# Altium footprint library PcbLib1.PcbLib: 5 footprints
Each footprint in its own frame and in the unit in brackets; x right, y up, seen from the top. Pads: shape width x height; smd on the part's side, far side on the other; paste and mask are expansions set on the pad; w line width, h text height; cw(c..) or ccw(c..) is an arc to the next point about the centre after c.
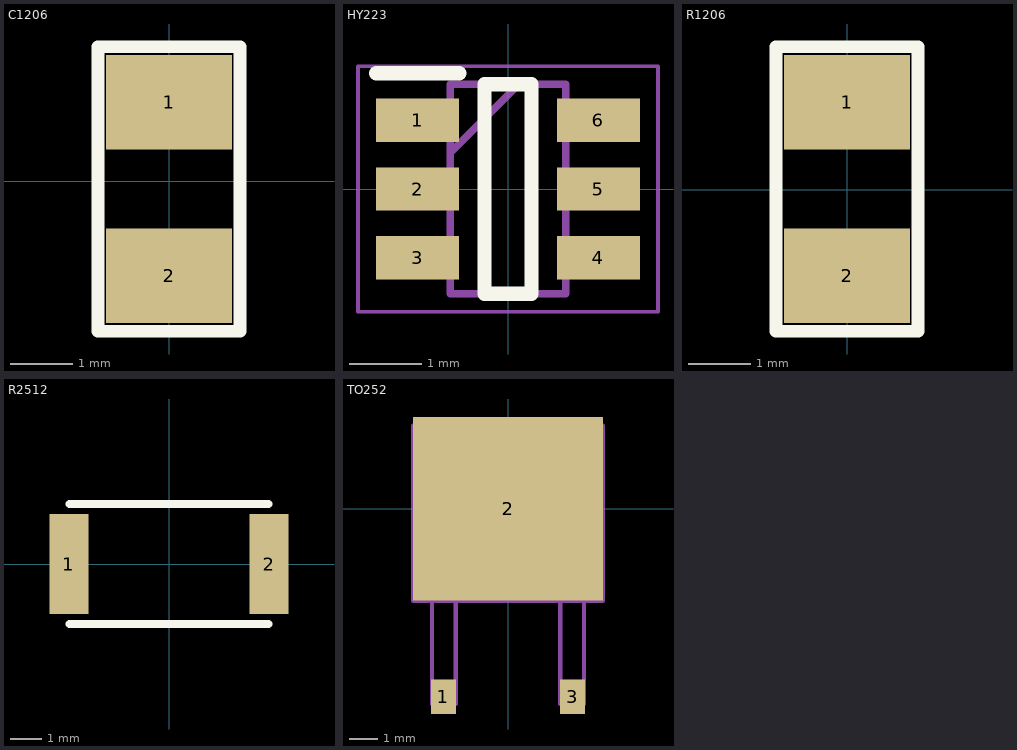
[diagram p0: the footprints below, top view; thin cyan lines are the x and y axes]

## C1206 [mil]
pads (2):
  rect 80x60 smd: 1(0,50) 2(0,-60)
Top Overlay:
  lines w8: -45,-95 45,-95 45,85 -45,85 -45,-95
3D body "capacitor 1206.step": height 39.37, standoff 0, extent -31.49,-67.99 31.5,58

## HY223 [mm]
pads (6):
  rect 1.15x0.6 smd: 1(-1.25,0.95) 2(-1.25,0) 3(-1.25,-0.95) 4(1.25,-0.95) 5(1.25,0) 6(1.25,0.95)
Top Overlay:
  lines w0.2: -1.825,1.6 -0.675,1.6 ; -0.325,-1.45 0.325,-1.45 0.325,1.45 -0.325,1.45 -0.325,-1.45
Mechanical 13:
  lines w0.1: -0.8,0.5 0.15,1.45 ; -0.8,-1.45 0.8,-1.45 0.8,1.45 -0.8,1.45 -0.8,-1.45
Mechanical 15:
  lines w0.05: -2.075,-1.7 2.075,-1.7 2.075,1.7 -2.075,1.7 -2.075,-1.7
3D body "HY2213-BB3A.stp": height 1.4, standoff 0, extent -1.4,-1.45 1.4,1.45

## R1206 [mil]
pads (2):
  rect 80x60 smd: 1(-0.1,55.62) 2(-0.1,-54.38)
Top Overlay:
  lines w8: -45.1,-89.38 44.9,-89.38 44.9,90.62 -45.1,90.62 -45.1,-89.38
3D body "User Library-RES_3216-1206.step": height 33.46, standoff 0, extent -34.16,-65.32 33.95,66.57

## R2512 [mil]
pads (2):
  rect 49x125 smd: 1(-125.5,0) 2(125.5,0)
Top Overlay:
  lines w10: -125,-75 125,-75 ; -125,75 125,75
3D body "resistor 2512.step": height 63.07, standoff 0, extent -124.99,-59.05 125,59.06

## TO252 [mil]
pads (3):
  rect 35x48 smd: 1(-90,-262) 3(90,-262)
  rect 265x256 smd: 2(0,0)
Mechanical 13:
  lines w6: -132,-128 -132,116 132,116 132,-128 -132,-128 ; -106,-272 -73,-272 -73,-128 -106,-128 -106,-272 ; 73,-272 106,-272 106,-128 73,-128 73,-272